# Altium schematic symbol library Connectors_Old.SchLib: 239 symbols (part 4 of 4)
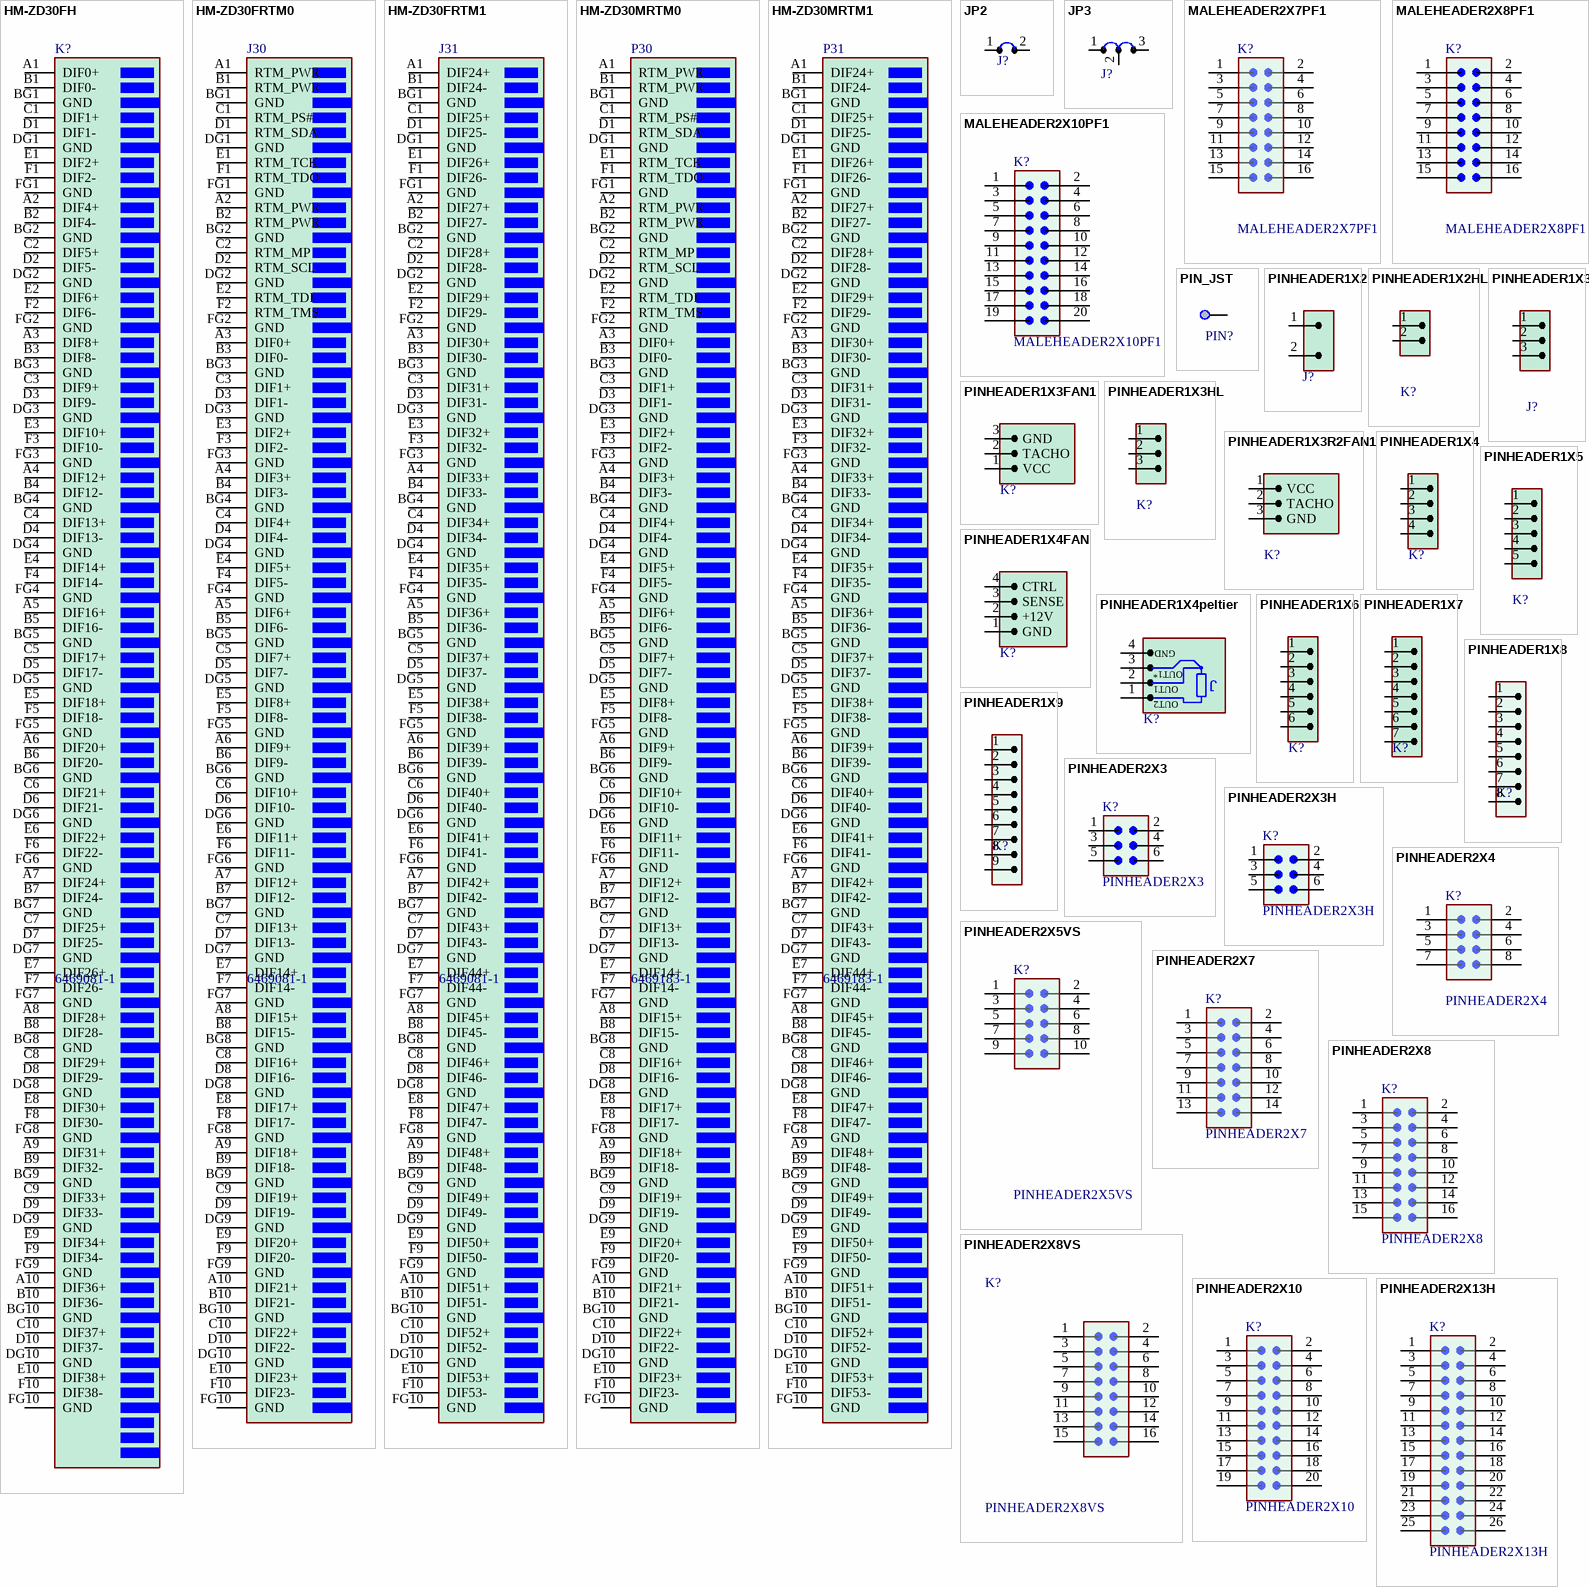
[diagram p19: symbols HM-ZD30FH to PINHEADER2X13H]

## PINHEADER1X2HL
designator K?  (value not drawn)
Pin Header 1x2 R2.54mm Horizontal with Locking; Manufacturer: Molex, Digikey; Manufacturer No: 22-05-3021, WM4300-ND; Sort: 610; Tech: THDW; Price: 0
footprint PINHDR1X2HL (Pin header 1x2 pin R2.54mm Molex 22-05-3021)
pins: 1, 2

## PINHEADER1X3
designator J?, comment JUMPER_PIN3  (value not drawn)
Sort: 610; Tech: THDW; Price: 0
footprint PINHDR1X3 (Pin header 1x3 pin R2.54mm)
pins: 1, 2, 3
1 alternate drawing of the same symbol

## PINHEADER1X3FAN1
designator K?, comment S03B-PASK-2  (value not drawn)
PinHeader Fan 1x3 R2.0mm; Manufacturer: JST; Comment2: 3A, 100V; Sort: 610; Tech: THDW; Price: 0; Number: S03B-PASK-2
footprint PINHDR1X3FAN (Pin header 1x3 pin R2.0mm FAN)
pins: 1 VCC, 2 TACHO, 3 GND

## PINHEADER1X3HL
designator K?  (value not drawn)
Pin Header 1x3 R2.54mm Horizontal with Locking; Manufacturer: Molex, Digikey; Manufacturer No: 22-05-3031, WM4301-ND; Sort: 610; Tech: THDW; Price: 0
footprint PINHDR1X3HL (Pin header 1x3 pin R2.54mm Molex 22-05-3031)
pins: 1, 2, 3

## PINHEADER1X3R2FAN1
designator K?, comment S03B-PASK-2  (value not drawn)
PinHeader Fan 1x3 R2.0mm; Manufacturer: JST; Comment2: 3A, 100V; Sort: 610; Tech: THDW; Package: Pin Header 1x3 R2; Price: 0; Number: S03B-PASK-2
footprint PINHDR1X3R2FAN1 (Pin header 1x3 pin R2.0mm FAN)
pins: 1 VCC, 2 TACHO, 3 GND

## PINHEADER1X4
designator K?  (value not drawn)
Pin Header 1x4 R2.54mm; Sort: 610; Tech: THDW; Price: 0
footprint PINHDR1X4 (Pin header 1x4 pin R2.54mm)
pins: 1, 2, 3, 4

## PINHEADER1X4FAN
designator K?, comment 47053-1000  (value not drawn)
PinHeader Fan 1x4 R2.54mm; Manufacturer: Molex; Sort: 610; Tech: THDW; Price: 0; Number: 47053-1000
footprint PINHDR1X4FAN (Pin header 1x4 pin R2.54mm Molex 47053-1000)
pins: 1 GND, 2 +12V, 3 SENSE, 4 CTRL

## PINHEADER1X4peltier
designator K?, comment 47053-1000  (value not drawn)
PinHeader Peltier 1x4 R2.54mm; Manufacturer: Molex; Sort: 610; Tech: THDW; Price: 0; Manufacturer No: 47053-1000
footprint PINHDR1X4FAN (Pin header 1x4 pin R2.54mm Molex 47053-1000)
pins: 1 OUT2, 2 OUT1, 3 OUT1*, 4 GND (power)
text: J

## PINHEADER1X5
designator K?  (value not drawn)
Pin Header 1x5 R2.54mm; Sort: 610; Tech: THDW; Price: 0
footprint PINHDR1X5 (Pin header 1x6 pin R2.54mm)
pins: 1, 2, 3, 4, 5

## PINHEADER1X6
designator K?  (value not drawn)
Pin Header 1x6 R2.54mm; Sort: 610; Tech: THDW; Price: 0
footprint PINHDR1X6 (Pin header 1x6 pin R2.54mm)
pins: 1, 2, 3, 4, 5, 6

## PINHEADER1X7
designator K?  (value not drawn)
Pin Header 1x6 R2.54mm; Sort: 610; Tech: THDW; Price: 0
footprint PINHDR1X7 (Pin header 1x7 pin R2.54mm)
pins: 1, 2, 3, 4, 5, 6, 7

## PINHEADER1X8
designator K?  (value not drawn)
Pin Header 1x8 R2.54mm; Sort: 610; Tech: THDW; Price: 0
footprint PINHDR1X8 (Pin header 1x8 pin R2.54mm)
pins: 1, 2, 3, 4, 5, 6, 7, 8

## PINHEADER1X9
designator K?  (value not drawn)
Pin Header 1x9 R2.54mm; Sort: 610; Tech: THDW; Price: 0
footprint PINHDR1X9 (Pin header 1x9 pin R2.54mm)
pins: 1, 2, 3, 4, 5, 6, 7, 8, 9

## PINHEADER2X3
designator K?
PIN HEADER 2x3 R2.54mm; Sort: 610; Tech: THDW; Price: 0
signal-integrity model Model Name (Model Description)
footprint PINHDR2X3 (Pin header 2x3 pin R2.54mm)
pins: 1, 2, 3, 4, 5, 6
1 alternate drawing of the same symbol

## PINHEADER2X3H
designator K?
PIN HEADER 2x3 R2.54mm horizontal; Sort: 610; Tech: THDW; Price: 0
signal-integrity model Model Name (Model Description)
footprint PINHDR2X3H (Pin header 2x3 pin R2.54mm Horizontal)
pins: 1, 2, 3, 4, 5, 6
1 alternate drawing of the same symbol

## PINHEADER2X4
designator K?
PIN HEADER 2x4 R2.54mm; Sort: 610; Tech: THDW; Price: 0
signal-integrity model Model Name (Model Description)
footprint PINHDR2X4 (Pin header 2x4 pin R2.54mm)
pins: 1, 2, 3, 4, 5, 6, 7, 8
1 alternate drawing of the same symbol

## PINHEADER2X5VS
designator K?
PIN HEADER 2x5 R2.54mm SMD; Manufacturer: Wuerth Elektronik; Manufacturer No: 610 010 211 21; Sort: 610; Tech: THDW; Package: CN 2x5SMD R2.54mm; Price: 0
signal-integrity model Model Name (Model Description)
footprint PINHDR2X5SMD (Pin header 2x5 pin SMD R2.54mm)
pins: 1, 2, 3, 4, 5, 6, 7, 8, 9, 10
1 alternate drawing of the same symbol

## PINHEADER2X7
designator K?
PIN HEADER 2x7 R2.54mm; Sort: 610; Tech: THDW; Price: 0
signal-integrity model Model Name (Model Description)
footprint PINHDR2X7 (Pin header 2x7 pin R2.54mm)
pins: 1, 2, 3, 4, 5, 6, 7, 8, 9, 10, 11, 12, 13, 14
1 alternate drawing of the same symbol

## PINHEADER2X8
designator K?
PIN HEADER 2x8 R2.54mm; Sort: 610; Tech: THDW; Price: 0
signal-integrity model Model Name (Model Description)
footprint PINHDR2X8 (Pin header 2x8 pin R2.54mm)
pins: 1, 2, 3, 4, 5, 6, 7, 8, 9, 10, 11, 12, 13, 14, 15, 16
1 alternate drawing of the same symbol

## PINHEADER2X8VS
designator K?
PIN HEADER 2x8 R2.54mm; Manufacturer: Samtec; Manufacturer No: TSM–108–02–S–DV; Sort: 610; Tech: THDW; Price: 0
signal-integrity model Model Name (Model Description)
footprint PINHDR2X8VS (Pin header 2x8 pin R2.54mm)
pins: 1, 2, 3, 4, 5, 6, 7, 8, 9, 10, 11, 12, 13, 14, 15, 16
1 alternate drawing of the same symbol

## PINHEADER2X10
designator K?
PIN HEADER 2x10 R2.54mm; Sort: 610; Tech: THDW; Price: 0
signal-integrity model Model Name (Model Description)
footprint PINHDR2X10 (Pin header 2x10 pin R2.54mm)
pins: 1, 2, 3, 4, 5, 6, 7, 8, 9, 10, 11, 12, 13, 14, 15, 16, 17, 18, 19, 20
1 alternate drawing of the same symbol

## PINHEADER2X13H
designator K?
PIN HEADER 2x13 R2.54mm horizontal; Manufacturer: Molex; Manufacturer No: 0879112612; Sort: 610; Tech: THDW; Price: 0
signal-integrity model Model Name (Model Description)
footprint PINHDR2X13H (Pin header 2x13 pin R2.54mm Horizontal)
pins: 1, 2, 3, 4, 5, 6, 7, 8, 9, 10, 11, 12, 13, 14, 15, 16, 17, 18, 19, 20, 21, 22, 23, 24, 25, 26
1 alternate drawing of the same symbol

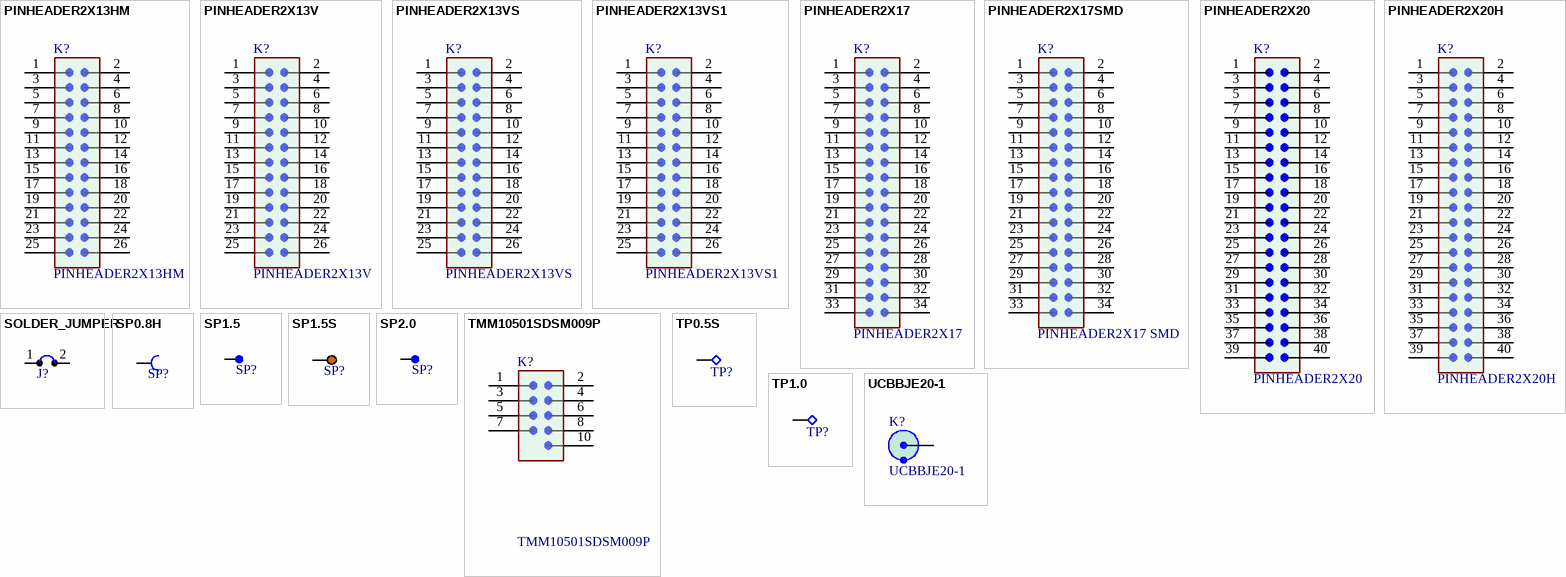
[diagram p16: symbols PINHEADER2X13HM to UCBBJE20-1]

## PINHEADER2X13HM
designator K?
PIN HEADER 2x13 R2.54mm horizontal; Manufacturer: Molex; Manufacturer No: 0879112612; Sort: 610; Tech: THDW; Price: 0
signal-integrity model Model Name (Model Description)
footprint PINHDR2X13HM (Pin header 2x13 pin R2.54mm Horizontal)
pins: 1, 2, 3, 4, 5, 6, 7, 8, 9, 10, 11, 12, 13, 14, 15, 16, 17, 18, 19, 20, 21, 22, 23, 24, 25, 26
1 alternate drawing of the same symbol

## PINHEADER2X13V
designator K?
PIN HEADER 2x13 R2.54mm; Manufacturer: FCI; Manufacturer No: 68602-126HLF; Comment2: Pin Header Male 2.54mm; Sort: 610; Tech: THDW; Package: pin header 2x13; Price: 1.03; Supplier: Digi-Key; Supplier No: 609-3367-ND
signal-integrity model Model Name (Model Description)
footprint PINHDR2X13V (Pin header 2x13 pin R2.54mm Vertical)
pins: 1, 2, 3, 4, 5, 6, 7, 8, 9, 10, 11, 12, 13, 14, 15, 16, 17, 18, 19, 20, 21, 22, 23, 24, 25, 26
1 alternate drawing of the same symbol

## PINHEADER2X13VS
designator K?
PIN HEADER 2x13 R2.54mm; Manufacturer: Taitek; Manufacturer No: HT2-26G070153R; Sort: 610; Tech: THDW; Price: 0
signal-integrity model Model Name (Model Description)
footprint PINHDR2X13VS (Pin header 2x13 pin R2.54mm)
pins: 1, 2, 3, 4, 5, 6, 7, 8, 9, 10, 11, 12, 13, 14, 15, 16, 17, 18, 19, 20, 21, 22, 23, 24, 25, 26
1 alternate drawing of the same symbol

## PINHEADER2X13VS1
designator K?
PIN HEADER 2x13 R2.54mm; Manufacturer: Samtec; Manufacturer No: TSM-113-03-L-DV; Sort: 610; Tech: THDW; Price: 0
signal-integrity model Model Name (Model Description)
footprint PINHDR2X13VS1 (Pin header 2x13 pin R2.54mm)
pins: 1, 2, 3, 4, 5, 6, 7, 8, 9, 10, 11, 12, 13, 14, 15, 16, 17, 18, 19, 20, 21, 22, 23, 24, 25, 26
1 alternate drawing of the same symbol

## PINHEADER2X17
designator K?
PIN HEADER 2x17 R2.54mm; Sort: 610; Tech: THDW; Price: 0
signal-integrity model Model Name (Model Description)
footprint PINHDR2X17 (Pin header 2x17 pin R2.54mm)
pins: 1, 2, 3, 4, 5, 6, 7, 8, 9, 10, 11, 12, 13, 14, 15, 16, 17, 18, 19, 20, 21, 22, 23, 24, 25, 26, 27, 28, 29, 30, 31, 32, 33, 34
1 alternate drawing of the same symbol

## PINHEADER2X17SMD
designator K?, comment PINHEADER2X17 SMD
PIN HEADER 2x17 R2.54mm  SMD; Manufacturer: Fischer, Burklin; Manufacturer No: SL11SMD062.40S , 58F7106; Sort: 610; Tech: THDW; Price: 0
signal-integrity model Model Name (Model Description)
footprint PINHDR2X17SMD (Pin header 2x17 pin R2.54mm SMD)
pins: 1, 2, 3, 4, 5, 6, 7, 8, 9, 10, 11, 12, 13, 14, 15, 16, 17, 18, 19, 20, 21, 22, 23, 24, 25, 26, 27, 28, 29, 30, 31, 32, 33, 34
1 alternate drawing of the same symbol

## PINHEADER2X20
designator K?
PIN HEADER 2x20 R2.54mm; Sort: 610; Tech: THDW; Price: 0
signal-integrity model Model Name (Model Description)
footprint PINHDR2X20 (Pin header 2x20 pin R2.54mm)
pins: 1, 2, 3, 4, 5, 6, 7, 8, 9, 10, 11, 12, 13, 14, 15, 16, 17, 18, 19, 20, 21, 22, 23, 24, 25, 26, 27, 28, 29, 30, 31, 32, 33, 34, 35, 36, 37, 38, 39, 40
1 alternate drawing of the same symbol

## PINHEADER2X20H
designator K?
PIN HEADER 2x20 R2.54mm right angle; Manufacturer: Molex; Manufacturer No: 0879114012; Sort: 610; Tech: THDW; Price: 0
signal-integrity model Model Name (Model Description)
footprint PINHDR2X20H (Pin header 2x20 pin R2.54mm Horizontal)
pins: 1, 2, 3, 4, 5, 6, 7, 8, 9, 10, 11, 12, 13, 14, 15, 16, 17, 18, 19, 20, 21, 22, 23, 24, 25, 26, 27, 28, 29, 30, 31, 32, 33, 34, 35, 36, 37, 38, 39, 40
1 alternate drawing of the same symbol

## SOLDER_JUMPER
designator J?  (no BOM)
Solderable jumper; Sort: 610; Tech: THDW; Package: CN PinHeader 1x2; Price: 0
footprint SOLDERJUMPER (PCB solder jumper)
pins: 1, 2

## SP0.8H
designator SP?  (value not drawn)  (no BOM)
Half moon side pad 0.8mm; Sort: 610; Tech: THDW; Price: 0
footprint SP0.8H (Solder pad 0.8mm half moon)
pins: 1

## SP1.5
designator SP?, comment SP1  (value not drawn)  (graphical)
Wire solder pin 1.5mm; Sort: 610; Tech: THDW; Price: 0
footprint SP1.5 (Test point 50mils)
footprint SSP4x2.5 (Solder pad 4x2.5mm SMD)
pins: 1

## SP1.5S
designator SP?  (value not drawn)  (no BOM)
Wire solder pin 1.5mm; Sort: 610; Tech: THDW; Price: 0
footprint SP1.5SQ (Solder Pad 1.5mm SMT)
footprint SP1.5X2.5 (Solder Pad 1.5x2.5mm SMT)
pins: 1

## SP2.0
designator SP?  (value not drawn)  (no BOM)
Wire solder pin 2.0mm; Sort: 610; Tech: THDW; Price: 0
footprint SP2.0 (Solder Pin 2.0mm)
pins: 1

## TMM10501SDSM009P
designator K?
TMM - Terminal strip, surface mount_9pin R2.00; Manufacturer: Samtec; Manufacturer No: TMM-105-01-S-D-SM-009-P; Sort: 610; Tech: THDW; Price: 0
footprint CNTMM10501_SMD9 (Connector TMM Terminal strip, SMD 9pin)
pins: 1, 2, 3, 4, 5, 6, 7, 8, 10

## TP0.5S
designator TP?, comment TP 0.5mm  (value not drawn)  (no BOM)
Test Point 0.5mm Slim; Sort: 610; Tech: THDW; Price: 0
footprint TPH0.5S (Test point TH 0.5mm slim)
footprint TPH0.4Q (Test point TH 0.4mm + Square pad TB)
pins: 1

## TP1.0
designator TP?, comment TP  (value not drawn)  (no BOM)
Test Point 1.0mm; Sort: 610; Tech: THDW; Price: 0
footprint TP1.0
pins: 1

## UCBBJE20-1
designator K?
75R Circuit Board Bulkhead Edge Mount  Coax “BNC” Style Receptacle; Manufacturer: Trompeter; Sort: 610; Tech: THDW; Manufacturer No: UCBBJE20-1; Comment2: 75R; Price: 0
signal-integrity model Model Name (Model Description)
footprint UCBBJE20-1 (Circuit Board Bulkhead Edge Mount  Coax “BNC” Style Receptacle)
pins: 1, 2 (in)